# Altium footprint library PCB - LEADED - SOIC - TI SOIC-14 D.PcbLib: 1 footprints
Each footprint in its own frame and in the unit in brackets; x right, y up, seen from the top. Pads: shape width x height; smd on the part's side, far side on the other; paste and mask are expansions set on the pad; w line width, h text height; cw(c..) or ccw(c..) is an arc to the next point about the centre after c.
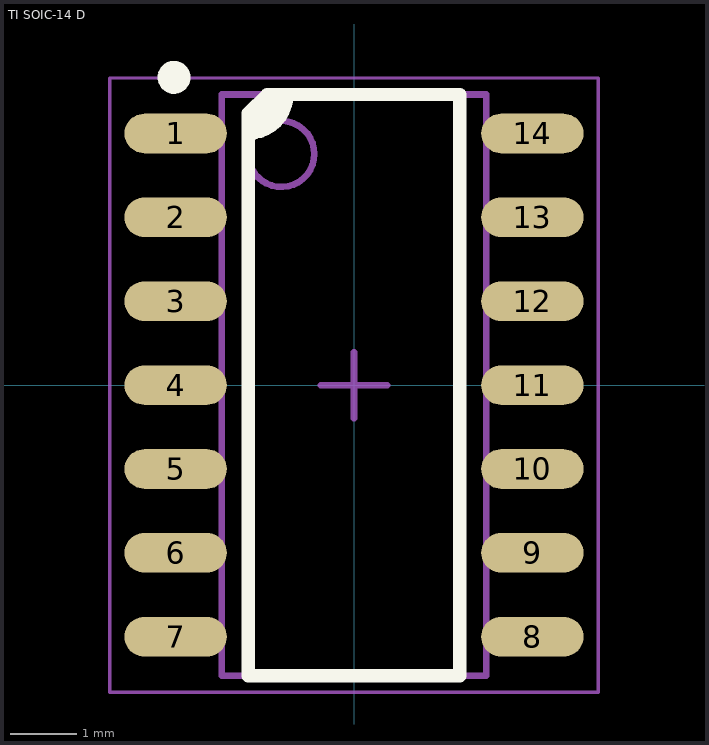
[diagram p0: the footprint, top view; thin cyan lines are the x and y axes]

## TI SOIC-14 D [mm] "SOP, 14-Leads, Body 8.65x3.90mm, Pitch 1.27mm, IPC Medium Density"
height 1.75
pads (14):
  oval 1.55x0.6 smd: 1(-2.7,3.81) 2(-2.7,2.54) 3(-2.7,1.27) 4(-2.7,0) 5(-2.7,-1.27) 6(-2.7,-2.54) 7(-2.7,-3.81) 8(2.7,-3.81) 9(2.7,-2.54) 10(2.7,-1.27) 11(2.7,0) 12(2.7,1.27) 13(2.7,2.54) 14(2.7,3.81)
Top Overlay:
  circle w0.25: c-2.725,4.66 r0.125
  region: -1.6,4.115 -1.315,4.4 -1.014,4.4 -1.014,4.389 -1.014,4.334 -1.036,4.226 -1.078,4.124 -1.139,4.033 -1.178,3.994 -1.186,3.986 -1.227,3.945 -1.323,3.881 -1.429,3.837 -1.542,3.814 -1.6,3.814
  lines w0.2: -1.6,3.814 ccw(c-1.6,4.4) -1.014,4.4 ; -1.6,-4.4 1.6,-4.4 1.6,4.4 -1.315,4.4 -1.6,4.115 -1.6,-4.4
Top Assembly:
  circle w0.1: c-1.1,3.5 r0.5
  lines w0.1: -2,-4.4 -2,4.4 2,4.4 2,-4.4 -2,-4.4
Top Courtyard:
  lines w0.05: -3.7,-4.65 -3.7,4.65 3.7,4.65 3.7,-4.65 -3.7,-4.65
  lines w0.1: -0.5,0 0.5,0 ; 0,-0.5 0,0.5
3D body "SO-14 150mil Wide.STEP": height 1.65, standoff 0, extent -3.01,-4.325 3.011,4.325